# Altium footprint library 封装库.PCBLIB: 282 footprints (part 12 of 18)
Each footprint in its own frame and in the unit in brackets; x right, y up, seen from the top. Pads: shape width x height; smd on the part's side, far side on the other; paste and mask are expansions set on the pad; w line width, h text height; cw(c..) or ccw(c..) is an arc to the next point about the centre after c.
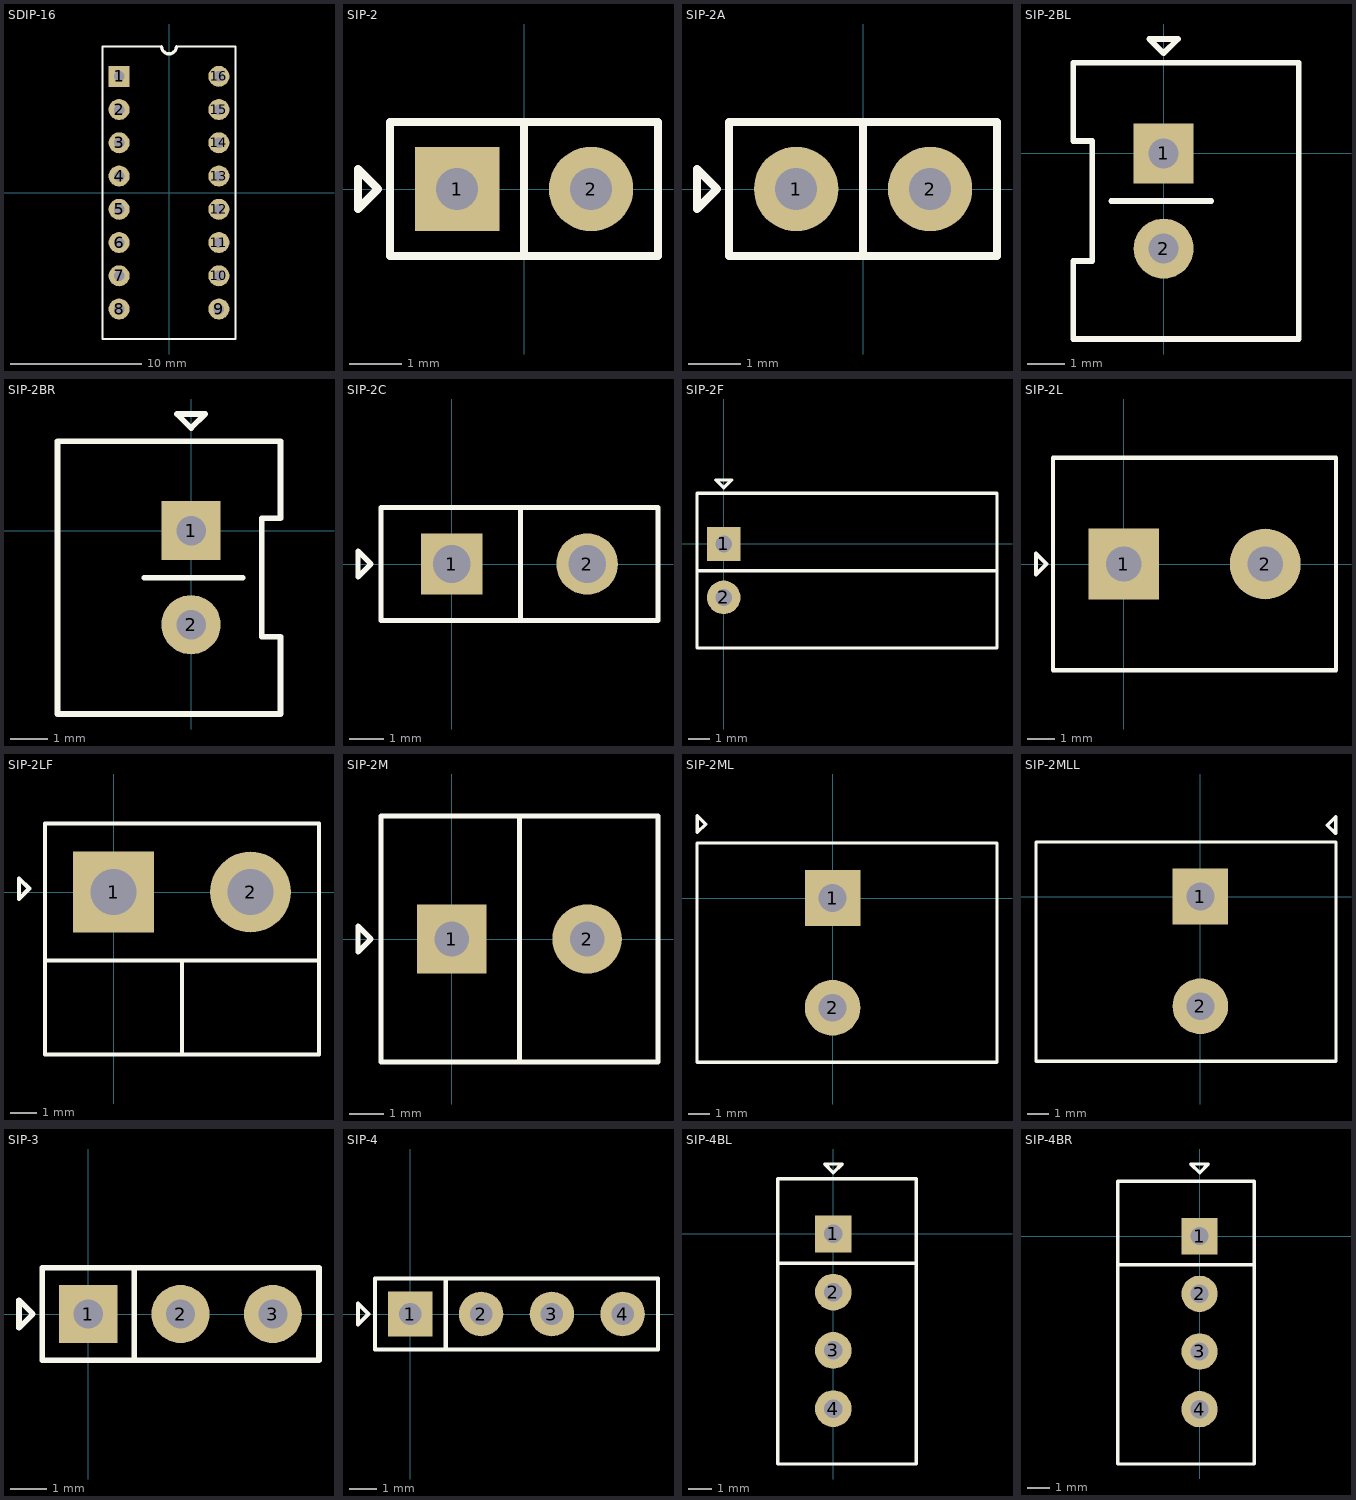
[diagram p11: the footprints below, top view; thin cyan lines are the x and y axes]

## SDIP-16 [mm]
pads (16):
  rect 1.6x1.6 hole 0.8: 1(-3.81,8.89)
  round 1.6 hole 0.8: 2(-3.81,6.35) 3(-3.81,3.81) 4(-3.81,1.27) 5(-3.81,-1.27) 6(-3.81,-3.81) 7(-3.81,-6.35) 8(-3.81,-8.89) 9(3.81,-8.89) 10(3.81,-6.35) 11(3.81,-3.81) 12(3.81,-1.27) 13(3.81,1.27) 14(3.81,3.81) 15(3.81,6.35) 16(3.81,8.89)
TopOverlay:
  lines w0.152: -0.568,11.176 -5.08,11.176 -5.08,-11.176 4.064,-11.176 5.08,-11.176 5.08,11.176 0.568,11.176
  lines w0.254: -0.568,11.176 ccw(c0,11.176) 0.568,11.176

## SIP-2 [mm] "PIN Header Single Row,2.54mm"
pads (2):
  rect 1.6x1.6 hole 0.8: 1(-1.27,0)
  round 1.6 hole 0.8: 2(1.27,0)
TopOverlay:
  lines w0.152: 0,-1.27 0,1.27 ; -3.15,-0.381 -3.15,0.381 -2.769,0 -3.15,-0.381 ; -2.54,-1.27 2.54,-1.27 2.54,1.27 -2.54,1.27 -2.54,-1.27

## SIP-2A [mm] "PIN Header Single Row,2.54mm"
pads (2):
  round 1.6 hole 0.8: 1(-1.27,0) 2(1.27,0)
TopOverlay:
  lines w0.152: 0,-1.27 0,1.27 ; -3.15,-0.381 -3.15,0.381 -2.769,0 -3.15,-0.381 ; -2.54,-1.27 -2.54,1.27 2.54,1.27 2.54,-1.27 -2.54,-1.27

## SIP-2BL [mm] "2.54mm,SIP,space"
pads (2):
  rect 1.6x1.6 hole 0.8: 1(0,0)
  round 1.6 hole 0.8: 2(0,-2.54)
TopOverlay:
  lines w0.152: -1.397,-1.27 1.27,-1.27 ; -2.413,-4.953 3.607,-4.953 3.607,2.413 -2.413,2.413 -2.413,0.33 -1.905,0.33 -1.905,-1.27 -1.905,-2.87 -2.413,-2.87 -2.413,-4.953 ; -0.381,3.048 0,2.667 0.381,3.048 -0.381,3.048

## SIP-2BR [mm] "2.54mm,SIP,space"
pads (2):
  rect 1.6x1.6 hole 0.8: 1(0,0)
  round 1.6 hole 0.8: 2(0,-2.54)
TopOverlay:
  lines w0.152: -1.27,-1.27 1.397,-1.27 ; -3.607,-4.953 2.413,-4.953 2.413,-2.87 1.905,-2.87 1.905,-1.27 1.905,0.33 2.413,0.33 2.413,2.413 -3.607,2.413 -3.607,-4.953 ; -0.381,3.15 0.381,3.15 0,2.769 -0.381,3.15

## SIP-2C [mm] "3.96mm"
pads (2):
  rect 1.8x1.8 hole 1.1: 1(0,0)
  round 1.8 hole 1.1: 2(3.96,0)
TopOverlay:
  lines w0.152: 2.007,-1.651 2.007,1.651 ; -2.749,-0.381 -2.368,0 -2.749,0.381 -2.749,-0.381 ; -2.076,-1.651 6.034,-1.651 6.034,1.651 -2.076,1.651 -2.076,-1.651

## SIP-2F [mm] "2.54mm,Flex"
pads (2):
  rect 1.6x1.6 hole 0.8: 1(0,0)
  round 1.6 hole 0.8: 2(0,-2.54)
TopOverlay:
  lines w0.152: -1.27,-1.27 13.005,-1.27 ; -1.27,-4.953 13.005,-4.953 13.005,2.413 -1.27,2.413 -1.27,-4.953 ; -0.381,3.048 0,2.667 0.381,3.048 -0.381,3.048

## SIP-2L [mm] "5.08mm,SIP"
pads (2):
  rect 2.54x2.54 hole 1.27: 1(0,0)
  round 2.54 hole 1.27: 2(5.08,0)
TopOverlay:
  lines w0.152: 7.62,-0.254 7.62,3.81 -2.54,3.81 -2.54,-3.81 7.62,-3.81 7.62,3.15 ; -3.15,-0.381 -2.769,0 -3.15,0.381 -3.15,-0.381

## SIP-2LF [mm] "5.08mm,flex,KF158R-02P6GR"
pads (2):
  rect 3x3 hole 1.7: 1(0,0)
  round 3 hole 1.7: 2(5.08,0)
TopOverlay:
  lines w0.152: -2.54,-2.54 7.62,-2.54 ; -1.422,-2.54 0,-2.54 ; 2.54,-6.02 2.54,-2.54 ; 7.62,-2.54 7.62,-6.02 -2.54,-6.02 -2.54,2.54 7.62,2.54 7.62,-2.54 ; -3.505,-0.254 -3.505,0.508 -3.124,0.127 -3.505,-0.254

## SIP-2M [mil] "3.96mm,KF396"
pads (2):
  rect 80x80 hole 40: 1(0,0)
  round 80 hole 40: 2(155.91,0)
TopOverlay:
  lines w6: -81.73,-80.27 -81.73,130 ; -81.73,-67 -81.73,-141.73 -14.73,-141.73 161.57,-141.73 141.57,-141.73 ; -81.73,114.41 -81.73,141.73 26,141.73 ; -4.73,141.73 151.57,141.73 ; 78,-141.73 78,19 ; 78,0 78,141.73 ; 124,-141.73 234.27,-141.73 ; 131,141.73 234.27,141.73 ; 207,-141.73 237.54,-141.73 ; 214,141.73 237.54,141.73 ; 237.64,-141.64 237.64,37 ; 237.64,0 237.64,141.64 ; -108.21,-15 -93.21,0 -108.21,15 -108.21,-15

## SIP-2ML [mm] "5.00mm,KF-128V,KF-103"
pads (2):
  rect 2.54x2.54 hole 1.27: 1(0,0)
  round 2.54 hole 1.27: 2(0,-5)
TopOverlay:
  lines w0.152: -6.187,-7.489 7.5,-7.489 7.5,2.511 -6.187,2.511 -6.187,-7.489 ; -6.172,2.993 -6.172,3.755 -5.791,3.374 -6.172,2.993

## SIP-2MLL [mm] "5.00mm,KF-128V,KF-103"
pads (2):
  rect 2.54x2.54 hole 1.27: 1(0,0)
  round 2.54 hole 1.27: 2(0,-5)
TopOverlay:
  lines w0.152: -7.5,-7.511 6.187,-7.511 6.187,2.489 -7.5,2.489 -7.5,-7.511 ; 5.791,3.259 6.172,3.64 6.172,2.878 5.791,3.259

## SIP-3 [mm] "PIN Header Single Row,2.54mm"
pads (3):
  rect 1.6x1.6 hole 0.8: 1(0,0)
  round 1.6 hole 0.8: 2(2.54,0) 3(5.08,0)
TopOverlay:
  lines w0.152: 1.27,-1.27 1.27,1.27 ; -1.905,-0.381 -1.524,0 -1.905,0.381 -1.905,-0.381 ; -1.27,-1.27 6.35,-1.27 6.35,1.27 -1.27,1.27 -1.27,-1.27

## SIP-4 [mm] "PIN Header Single Row,2.54mm"
pads (4):
  rect 1.6x1.6 hole 0.8: 1(0,0)
  round 1.6 hole 0.8: 2(2.54,0) 3(5.08,0) 4(7.62,0)
TopOverlay:
  lines w0.152: 1.27,-1.27 1.27,1.27 ; -1.88,-0.381 -1.88,0.381 -1.499,0 -1.88,-0.381 ; -1.27,-1.27 8.89,-1.27 8.89,1.27 -1.27,1.27 -1.27,-1.27

## SIP-4BL [mm] "2.54mm,SIP,space"
pads (4):
  rect 1.6x1.6 hole 0.8: 1(0,0)
  round 1.6 hole 0.8: 2(0,-2.54) 3(0,-5.08) 4(0,-7.62)
TopOverlay:
  lines w0.152: -2.413,-1.27 3.607,-1.27 ; -2.413,-10.033 -2.413,2.413 3.607,2.413 3.607,-10.033 -2.413,-10.033 ; -0.381,3.048 0.381,3.048 0,2.667 -0.381,3.048

## SIP-4BR [mm] "2.54mm,SIP,space"
pads (4):
  rect 1.6x1.6 hole 0.8: 1(0,0)
  round 1.6 hole 0.8: 2(0,-2.54) 3(0,-5.08) 4(0,-7.62)
TopOverlay:
  lines w0.152: -3.607,-1.27 2.413,-1.27 ; -3.607,-10.033 2.413,-10.033 2.413,2.413 -3.607,2.413 -3.607,-10.033 ; -0.381,3.175 0,2.794 0.381,3.175 -0.381,3.175